# Altium schematic symbol library ST-214N.SchLib: 1 symbol
Pins are listed as number, name and electrical type; pins without a type are passive.

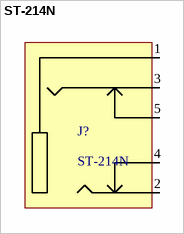
[diagram p0: symbol ST-214N]

## ST-214N
designator J?
ST-214N Audio-jack 3.5
footprint ST-214N
pins: 1, 2, 3, 4, 5